# EAGLE library part HE2AN (library Panasonic Relay)
HE - Plug-in type - 2 Form A - Single side stable Data sheet <https://www.panasonic-electric-works.com/eu/download.htm?id=55614> Parameters Max. switching voltage: 30 V DC / 277 V AC Max. switching current: 30 A / 25 A Operational function: Single side stable Contact arrangement: NO (Single side stable type) / 2 NO (Single side stable type) Applications Office equipment: Copiers, package air conditioners, automatic vending machines. Industrial equipment: Machine tools, molding equipment, wrapping machines, food processing equipment, etc. Home appliances: Air conditioners, microwave ovens, televisions, stereo systems, water heaters and air heating equipment. Options Also available as PC board, TM and screw terminal type.
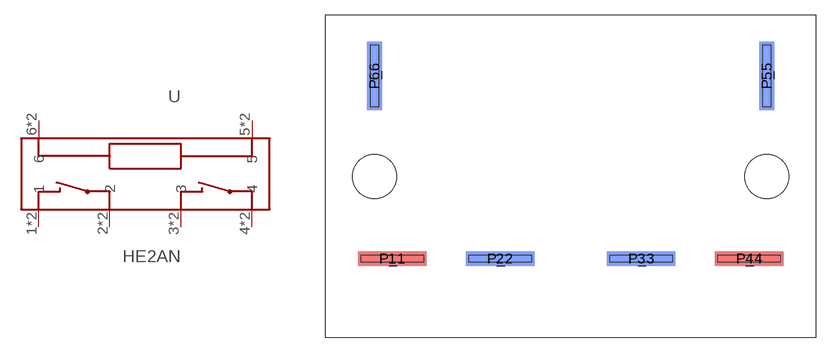
[diagram p60: symbol with the pads of HE_2_FORM_A; footprint HE_2_FORM_A]

Designator prefix -

## HE2AN-AC100V (U_COIL: 100/120V AC), HE2AN-AC12V (U_COIL: 12V AC), HE2AN-AC200V (U_COIL: 200/240V AC), HE2AN-AC24V (U_COIL: 24V AC), HE2AN-AC48V (U_COIL: 48V AC), HE2AN-DC100V (U_COIL: 100V DC), HE2AN-DC110V (U_COIL: 110V DC), HE2AN-DC12V (U_COIL: 12V DC), HE2AN-DC24V (U_COIL: 24V DC), HE2AN-DC48V (U_COIL: 48V DC), HE2AN-DC6V (U_COIL: 6V DC)  [HE_2_FORM_A]
1  1
2  2
3  3
4  4
5  5
6  6
P_1  1
P_2  2
P_3  3
P_4  4
P_5  5
P_6  6

## Footprint HE_2_FORM_A (pad centres in mm)
smd 7 x 1.5 bottom: 1 -18.2,-8.4; 2 -7.2,-8.4; 3 7.2,-8.4; 4 18.2,-8.4
smd 1.5 x 7 bottom: 5 20,10.25; 6 -20,10.25
smd 7 x 1.5: P_1 -18.2,-8.4; P_2 -7.2,-8.4; P_3 7.2,-8.4; P_4 18.2,-8.4
smd 1.5 x 7: P_5 20,10.25; P_6 -20,10.25
hole 4.5 at 20,0
hole 4.5 at -20,0